# EAGLE library part OPTO-PC847(QUAD) (library QuantumOptics)
Photocoupler, quad, CTR > 50%.
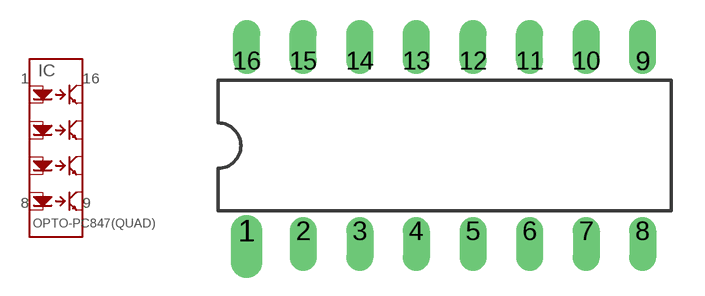
[diagram p13: symbol with the pads of DIL16; footprint DIL16]

Designator prefix IC

## OPTO-PC847(QUAD)P  [DIL16]
1  A1
2  K1
3  A2
4  K2
5  A3
6  K3
7  A4
8  K4
9  E4
10  C4
11  E3
12  C3
13  E2
14  C2
15  E1
16  C1

## Footprint DIL16 (pad centres in mm)
Dual In Line Package, 16 pin on 0.1" x 0.3" grid, 0.028" holes (less plating). Can take gullwing SMT.
drill 0.711 pad 1.422 offset: 1 -8.89,-3.81
drill 0.711 offset: 2 -6.35,-3.81; 3 -3.81,-3.81; 4 -1.27,-3.81; 5 1.27,-3.81; 6 3.81,-3.81; 7 6.35,-3.81; 8 8.89,-3.81; 9 8.89,3.81; 10 6.35,3.81; 11 3.81,3.81; 12 1.27,3.81; 13 -1.27,3.81; 14 -3.81,3.81; 15 -6.35,3.81; 16 -8.89,3.81